# Altium footprint library Supernova Transistors.PcbLib: 21 footprints (part 1 of 2)
Each footprint in its own frame and in the unit in brackets; x right, y up, seen from the top. Pads: shape width x height; smd on the part's side, far side on the other; paste and mask are expansions set on the pad; w line width, h text height; cw(c..) or ccw(c..) is an arc to the next point about the centre after c.
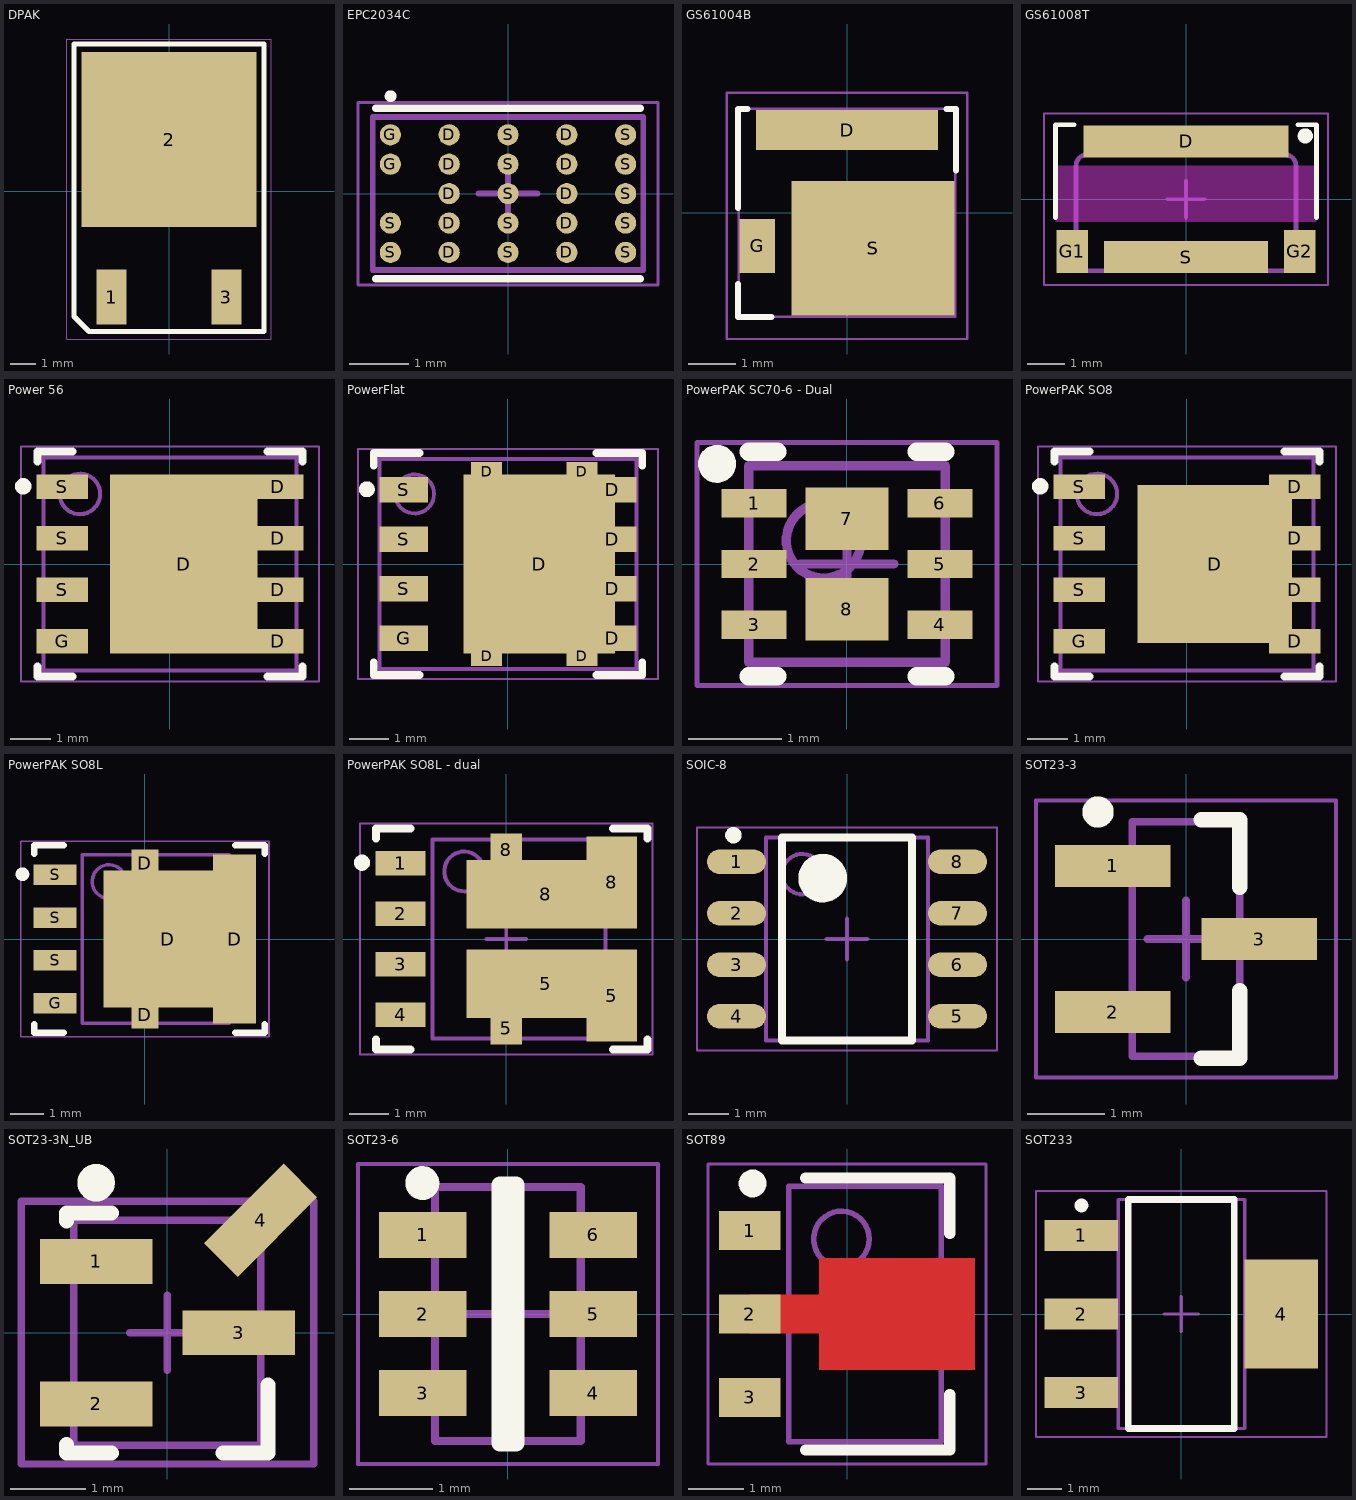
[diagram p0: the footprints below, top view; thin cyan lines are the x and y axes]

## DPAK [mm] "D2-PAK/TO-263-AB; 3 Leads (1 Cropped); Body 15.5 (inc. leads) x 10.5 mm (LxW max)"
height 4.69
pads (3):
  rect 1.2x2.2 smd: 1(-2.29,-4.23) 3(2.29,-4.23)
  rect 7x7 smd paste-5: 2(0,2.07)
Top Overlay:
  lines w0.2: -3.8,-5 -3.2,-5.6 3.8,-5.6 3.8,5.9 -3.8,5.9 -3.8,-5
Top Paste:
  region: -3.3,2.275 -0.3,2.275 -0.3,5.2 -3.3,5.2
  region: 0.35,2.275 3.3,2.275 3.3,5.2 0.35,5.2
  region: -3.3,-1.2 -0.3,-1.2 -0.3,1.775 -3.3,1.775
  region: 0.3,-1.2 3.3,-1.2 3.3,1.775 0.3,1.775
Top Courtyard (Mech15):
  lines w0.05: -4.1,-5.9 -4.1,6.1 4.1,6.1 4.1,-5.9 -4.1,-5.9
  lines w0.1: -0.5,0 0.5,0 ; 0,-0.5 0,0.5
3D body "User Library-DPAK-1.step": height 2.39, standoff -0.02, extent -3.27,-4.811 3.27,5.128

## EPC2034C [mm] "BGA, 24-Leads, Body 4.60x2.60mmx0.51mm, Pitch 0.50mm"
height 0.51
pads (24):
  round 0.36 smd paste-0.03 mask-0.03: D(-1,-1) D(-1,-0.5) D(-1,0) D(-1,0.5) D(-1,1) D(1,-1) D(1,-0.5) D(1,0) D(1,0.5) D(1,1) G(-2,0.5) G(-2,1) S(-2,-1) S(-2,-0.5) S(0,-1) S(0,-0.5) S(0,0) S(0,0.5) S(0,1) S(2,-1) S(2,-0.5) S(2,0) S(2,0.5) S(2,1)
Top Overlay:
  circle w0.1: c-1.997,1.657 r0.05
  lines w0.127: -2.25,-1.45 -1,-1.45 1,-1.45 2.25,-1.45 ; -2.25,1.45 -1,1.45 1,1.45 2.25,1.45
Top 3D Body (Mech13):
  lines w0.1: -2.3,-1.3 2.3,-1.3 2.3,1.3 -2.3,1.3 -2.3,-1.3
Top Courtyard (Mech15):
  lines w0.05: -2.55,-1.55 2.55,-1.55 2.55,1.55 -2.55,1.55 -2.55,-1.55
  lines w0.1: -0.5,0 0.5,0 ; 0,-0.5 0,0.5
3D body: height 0.51, standoff 0.25, extent -2.3,-1.3 2.3,1.3

## GS61004B [mm]
pads (3):
  rect 3.85x0.85 smd paste-2: D(0,1.75)
  rect 0.75x1.15 smd paste-0.075: G(-1.9,-0.7)
  rect 3.45x2.85 smd paste-3: S(0.55,-0.75)
Top Overlay:
  lines w0.127: -2.3,-1.5 -2.3,-2.2 -1.6,-2.2 ; -2.3,0.1 -2.3,2.2 -2.1,2.2 ; 2.1,2.2 2.3,2.2 2.3,0.9
Top Paste:
  region: 2.175,-0.175 2.175,0.575 1.175,0.575 1.175,-0.175
  region: -1.9,1.4 -1.1,1.4 -1.1,2.1 -1.9,2.1
  region: -0.9,1.4 -0.1,1.4 -0.1,2.1 -0.9,2.1
  region: 0.1,1.4 0.9,1.4 0.9,2.1 0.1,2.1
  region: 1.1,1.4 1.9,1.4 1.9,2.1 1.1,2.1
  region: 1.05,-0.175 1.05,0.575 0.05,0.575 0.05,-0.175
  region: -0.075,-0.175 -0.075,0.575 -1.075,0.575 -1.075,-0.175
  region: -1.075,-1.325 -1.075,-2.075 -0.075,-2.075 -0.075,-1.325
  region: 0.05,-1.325 0.05,-2.075 1.05,-2.075 1.05,-1.325
  region: 1.175,-1.325 1.175,-2.075 2.175,-2.075 2.175,-1.325
  region: -1.075,-0.375 -1.075,-1.125 -0.075,-1.125 -0.075,-0.375
  region: 0.05,-0.375 0.05,-1.125 1.05,-1.125 1.05,-0.375
  region: 1.175,-0.375 1.175,-1.125 2.175,-1.125 2.175,-0.375
Top 3D Body (Mech13):
  lines w0.05: -2.286,-2.2 2.286,-2.2 2.286,2.2 -2.286,2.2 -2.286,-2.2
Top Courtyard (Mech15):
  lines w0.05: -2.54,-2.667 -2.54,2.54 2.54,2.54 2.54,-2.667 -2.54,-2.667
  lines w0.1: -0.5,0 0.5,0 ; 0,-0.5 0,0.5
3D body: height 0.5, standoff 0, extent -2.286,-2.222 2.286,2.223

## GS61008T [mm] "GAN TRANS EMODE 100V 90A TOP SIDE COOLED"
height 0.5
pads (4):
  rect 5.5x0.85 smd paste-2: D(0,1.55)
  rect 0.85x1.15 smd paste-0.075: G1(-3.05,-1.4) G2(3.05,-1.4)
  rect 4.4x0.85 smd paste-2: S(0,-1.55)
Top Layer keep-out:
  region: -3.5,0.9 3.5,0.9 3.5,-0.6 -3.5,-0.6
Top Overlay:
  circle w0.203: c3.2,1.7 r0.102
  lines w0.127: -3.5,-0.5 -3.5,2 -3,2 ; 3,2 3.5,2 3.5,-0.5
Top Paste:
  region: 2.075,-1.9 1.175,-1.9 1.175,-1.2 2.075,-1.2
  region: 1.025,-1.9 0.125,-1.9 0.125,-1.2 1.025,-1.2
  region: -0.125,-1.9 -1.025,-1.9 -1.025,-1.2 -0.125,-1.2
  region: -2.075,-1.9 -1.175,-1.9 -1.175,-1.2 -2.075,-1.2
  region: -1.425,1.2 -2.575,1.2 -2.575,1.9 -1.425,1.9
  region: -0.1,1.2 -1.25,1.2 -1.25,1.9 -0.1,1.9
  region: 1.225,1.2 0.075,1.2 0.075,1.9 1.225,1.9
  region: 2.55,1.2 1.4,1.2 1.4,1.9 2.55,1.9
Mechanical 5:
  lines w0.127: -2.95,-1.62 ccw(c-2.65,-1.62) -2.65,-1.92 ; -2.95,-1.6 -2.95,0.6 -2.95,0.9 cw(c-2.65,0.9) -2.65,1.2 -2,1.2 2.1,1.2 2.65,1.2 cw(c2.65,0.9) 2.95,0.9 2.95,0.6 2.95,-1.6 ; -2.63,-1.92 -2,-1.92 2.1,-1.92 2.63,-1.92 ; 2.65,-1.92 ccw(c2.65,-1.62) 2.95,-1.62
Top Courtyard (Mech15):
  lines w0.05: -3.81,-2.3 3.81,-2.3 3.81,2.3 -3.81,2.3 -3.81,-2.3
  lines w0.1: -0.5,0 0.5,0 ; 0,-0.5 0,0.5
3D body: height 0.54, standoff 0.5, extent -2.95,-1.92 2.95,1.2
3D body: height 0.5, standoff 0, extent -3.5,-2 3.5,2

## Power 56 [mm] "SON, 8-Leads, Body 5.15x6.15mm, Pitch 1.27mm, Thermal Pad 3.74x3.66mm, IPC Medium Density"
height 1.12
pads (9):
  rect 3.65x4.42 smd paste-2: D(0.34,0)
  rect 1.27x0.61 smd paste-0.05: D(2.66,-1.905) D(2.66,-0.635) D(2.66,0.635) D(2.66,1.905) G(-2.66,-1.905) S(-2.66,-0.635) S(-2.66,0.635) S(-2.66,1.905)
Top Overlay:
  circle w0.203: c-3.628,1.919 r0.102
  lines w0.2: -3.275,-2.53 -3.275,-2.78 -2.41,-2.78 ; -3.275,2.53 -3.275,2.78 -2.41,2.78 ; 2.41,-2.78 3.275,-2.78 3.275,-2.53 ; 2.41,2.78 3.275,2.78 3.275,2.53
Top Paste:
  region: 0.398,-0.1 0.398,-1.981 1.829,-1.981 1.829,-0.1
  region: 0.148,-0.1 -1.321,-0.1 -1.321,-1.981 0.148,-1.981
  region: 0.148,0.1 0.148,2.007 -1.321,2.007 -1.321,0.1
  rectangle: 0.398,0.1 1.829,2.007
Top 3D Body (Mech13):
  circle w0.1: c-2.225,1.73 r0.5
  lines w0.1: -3.125,-2.63 3.125,-2.63 3.125,2.63 -3.125,2.63 -3.125,-2.63
Top Courtyard (Mech15):
  lines w0.05: -3.68,-2.9 3.68,-2.9 3.68,2.9 -3.68,2.9 -3.68,-2.9
  lines w0.1: -0.5,0 0.5,0 ; 0,-0.5 0,0.5
3D body: height 1.12, standoff 0, extent -3.125,-2.63 3.125,2.63

## PowerFlat [mm] "SON, 8-Leads, Body 5.20x6.40mm, Pitch 1.27mm, Thermal Pad 4.30x3.60mm, IPC Medium Density"
height 1
pads (13):
  rect 0.8x0.5 smd paste-4: D(-0.55,-2.375) D(-0.55,2.375) D(1.9,-2.375) D(1.9,2.375)
  rect 3.9x4.6 smd paste-2: D(0.8,0)
  rect 1.25x0.65 smd paste-0.05: D(2.675,-1.905) D(2.675,-0.635) D(2.675,0.635) D(2.675,1.905) G(-2.675,-1.905) S(-2.675,-0.635) S(-2.675,0.635) S(-2.675,1.905)
Top Overlay:
  circle w0.203: c-3.628,1.919 r0.102
  lines w0.2: -3.45,-2.53 -3.45,-2.85 -2.275,-2.85 ; -3.45,2.53 -3.45,2.85 -2.275,2.85 ; 2.275,-2.85 3.45,-2.85 3.45,-2.53 ; 2.275,2.85 3.45,2.85 3.45,2.53
Top Paste:
  region: 0.5,-0.1 0.5,-1.9 1.8,-1.9 1.8,-0.1
  region: 0.3,-0.1 -1,-0.1 -1,-1.9 0.3,-1.9
  region: 0.3,0.1 0.3,1.9 -1,1.9 -1,0.1
  rectangle: 0.5,0.1 1.8,1.9
Top 3D Body (Mech13):
  circle w0.1: c-2.4,1.8 r0.5
  lines w0.1: -3.3,-2.7 -3.3,2.7 3.3,2.7 3.3,-2.7 -3.3,-2.7
Top Courtyard (Mech15):
  lines w0.05: -3.855,-2.95 -3.855,2.95 3.855,2.95 3.855,-2.95 -3.855,-2.95
  lines w0.1: -0.5,0 0.5,0 ; 0,-0.5 0,0.5
3D body: height 1, standoff 0.02, extent -3.3,-2.7 3.3,2.7

## PowerPAK SC70-6 - Dual [mm] "SON, 6-Leads, Body 2.00x2.00mm, Pitch 0.65mm, Thermal Pad 0.67x0.89mm, IPC Medium Density"
height 0.55
pads (8):
  rect 0.7x0.3 smd mask+0.025: 1(-0.995,0.65) 2(-0.995,0) 3(-0.995,-0.65) 4(0.995,-0.65) 5(0.995,0) 6(0.995,0.65)
  rect 0.89x0.67 smd paste-0.06 mask+0.025: 7(0,0.485) 8(0,-0.485)
Top Overlay:
  circle w0.203: c-1.391,1.072 r0.102
  lines w0.2: -1.05,-1.2 -0.745,-1.2 ; -1.05,1.2 -0.745,1.2 ; 0.745,-1.2 1.05,-1.2 ; 0.745,1.2 1.05,1.2
Top 3D Body (Mech13):
  circle w0.1: c-0.25,0.25 r0.4
  lines w0.1: -1.05,-1.05 -1.05,1.05 1.05,1.05 1.05,-1.05 -1.05,-1.05
Top Courtyard (Mech15):
  lines w0.05: -1.605,-1.3 -1.605,1.3 1.605,1.3 1.605,-1.3 -1.605,-1.3
  lines w0.1: -0.5,0 0.5,0 ; 0,-0.5 0,0.5
3D body: height 0.55, standoff 0, extent -1.05,-1.05 1.05,1.05

## PowerPAK SO8 [mm] "SON, 8-Leads, Body 5.15x6.15mm, Pitch 1.27mm, Thermal Pad 3.74x3.66mm, IPC Medium Density"
height 1.12
pads (9):
  rect 3.81x3.91 smd paste-2: D(0.686,0)
  rect 1.27x0.61 smd paste-0.05: D(2.66,-1.905) D(2.66,-0.635) D(2.66,0.635) D(2.66,1.905) G(-2.66,-1.905) S(-2.66,-0.635) S(-2.66,0.635) S(-2.66,1.905)
Top Overlay:
  circle w0.203: c-3.628,1.919 r0.102
  lines w0.2: -3.275,-2.53 -3.275,-2.78 -2.41,-2.78 ; -3.275,2.53 -3.275,2.78 -2.41,2.78 ; 2.41,-2.78 3.275,-2.78 3.275,-2.53 ; 2.41,2.78 3.275,2.78 3.275,2.53
Top Paste:
  region: 0.55,-0.1 0.55,-1.6 1.85,-1.6 1.85,-0.1
  region: 0.3,-0.1 -1,-0.1 -1,-1.6 0.3,-1.6
  region: 0.3,0.1 0.3,1.6 -1,1.6 -1,0.1
  rectangle: 0.55,0.1 1.85,1.6
Top 3D Body (Mech13):
  circle w0.1: c-2.225,1.73 r0.5
  lines w0.1: -3.125,-2.63 3.125,-2.63 3.125,2.63 -3.125,2.63 -3.125,-2.63
Top Courtyard (Mech15):
  lines w0.05: -3.68,-2.9 3.68,-2.9 3.68,2.9 -3.68,2.9 -3.68,-2.9
  lines w0.1: -0.5,0 0.5,0 ; 0,-0.5 0,0.5
3D body: height 1.12, standoff 0, extent -3.125,-2.63 3.125,2.63

## PowerPAK SO8L [mm] "SON, 8-Leads, Body 5.15x6.15mm, Pitch 1.27mm, Thermal Pad 3.74x3.66mm, IPC Medium Density"
height 1.12
pads (8):
  rect 0.8x0.8 smd paste-4: D(0,-2.25) D(0,2.25)
  rect 3.81x4.061 smd paste-2: D(0.686,0)
  rect 1.27x5 smd paste-0.05: D(2.66,0)
  rect 1.27x0.61 smd paste-0.05: G(-2.66,-1.905) S(-2.66,-0.635) S(-2.66,0.635) S(-2.66,1.905)
Top Overlay:
  circle w0.203: c-3.628,1.919 r0.102
  lines w0.2: -3.275,-2.53 -3.275,-2.78 -2.41,-2.78 ; -3.275,2.53 -3.275,2.78 -2.41,2.78 ; 2.685,-2.78 3.55,-2.78 3.55,-2.53 ; 2.685,2.78 3.55,2.78 3.55,2.53
Top Paste:
  region: 0.5,-0.1 0.5,-1.7 1.8,-1.7 1.8,-0.1
  region: 0.3,-0.1 -1,-0.1 -1,-1.7 0.3,-1.7
  region: 0.3,0.1 0.3,1.7 -1,1.7 -1,0.1
  rectangle: 0.5,0.1 1.8,1.7
Top 3D Body (Mech13):
  circle w0.1: c-1.06,1.7 r0.5
  lines w0.1: -1.86,-2.5 -1.86,2.5 2.5,2.5 2.5,-2.5 -1.86,-2.5
Top Courtyard (Mech15):
  lines w0.05: -3.68,-2.9 3.68,-2.9 3.68,2.9 -3.68,2.9 -3.68,-2.9
  lines w0.1: -0.5,0 0.5,0 ; 0,-0.5 0,0.5
3D body: height 1.07, standoff 0, extent -1.86,-2.5 2.5,2.5
3D body: height 0.4, standoff 0, extent -3.054,1.727 -0.227,2.083
3D body: height 0.4, standoff 0, extent -3.054,0.457 -0.227,0.813
3D body: height 0.4, standoff 0, extent -3.054,-0.813 -0.227,-0.457
3D body: height 0.4, standoff 0, extent -3.054,-2.083 -0.227,-1.727
3D body: height 0.4, standoff 0, extent 2.5,-2.5 3.054,2.5

## PowerPAK SO8L - dual [mm] "SON, 8-Leads, Body 5.15x6.15mm, Pitch 1.27mm, Thermal Pad 3.74x3.66mm, IPC Medium Density"
height 1.12
pads (10):
  rect 1.27x0.61 smd paste-0.05: 1(-2.66,1.905) 2(-2.66,0.635) 3(-2.66,-0.635) 4(-2.66,-1.905)
  rect 0.8x0.8 smd paste-4: 5(0,-2.25) 8(0,2.25)
  rect 3.99x1.73 smd paste-2: 5(1,-1.125) 8(1,1.125)
  rect 1.27x2.315 smd paste-0.05: 5(2.66,-1.425) 8(2.66,1.425)
Top Overlay:
  circle w0.203: c-3.628,1.919 r0.102
  lines w0.2: -3.275,-2.53 -3.275,-2.78 -2.41,-2.78 ; -3.275,2.53 -3.275,2.78 -2.41,2.78 ; 2.685,-2.78 3.55,-2.78 3.55,-2.53 ; 2.685,2.78 3.55,2.78 3.55,2.53
Top Paste:
  region: 1.6,1.8 -0.625,1.8 -0.625,0.5 1.6,0.5
  region: 1.6,-0.5 -0.625,-0.5 -0.625,-1.8 1.6,-1.8
Top 3D Body (Mech13):
  circle w0.1: c-1.06,1.7 r0.5
  lines w0.1: -1.86,-2.5 2.5,-2.5 2.5,2.5 -1.86,2.5 -1.86,-2.5
Top Courtyard (Mech15):
  lines w0.05: -3.68,-2.9 -3.68,2.9 3.68,2.9 3.68,-2.9 -3.68,-2.9
  lines w0.1: -0.5,0 0.5,0 ; 0,-0.5 0,0.5
3D body: height 0.4, standoff 0, extent 2.5,-2.5 3.054,-0.35
3D body: height 0.4, standoff 0, extent 2.5,0.35 3.054,2.5
3D body: height 0.4, standoff 0, extent -3.054,-2.083 -0.227,-1.727
3D body: height 0.4, standoff 0, extent -3.054,-0.813 -0.227,-0.457
3D body: height 0.4, standoff 0, extent -3.054,0.457 -0.227,0.813
3D body: height 0.4, standoff 0, extent -3.054,1.727 -0.227,2.083
3D body: height 1.07, standoff 0, extent -1.86,-2.5 2.5,2.5

## SOIC-8 [mm] "SOIC, 8-Leads, Body 4.90x3.90mm, Pitch 1.27mm, IPC Medium Density"
height 1.75
pads (8):
  oval 1.45x0.6 smd: 1(-2.725,1.905) 2(-2.725,0.635) 3(-2.725,-0.635) 4(-2.725,-1.905) 5(2.725,-1.905) 6(2.725,-0.635) 7(2.725,0.635) 8(2.725,1.905)
Top Overlay:
  circle w0.203: c-2.801,2.56 r0.102
  circle w0.6: c-0.6,1.5 r0.3
  lines w0.2: -1.6,-2.5 1.6,-2.5 1.6,2.5 -1.6,2.5 -1.6,-2.5
Top 3D Body (Mech13):
  circle w0.1: c-1.1,1.6 r0.5
  lines w0.1: -2,-2.5 2,-2.5 2,2.5 -2,2.5 -2,-2.5
Top Courtyard (Mech15):
  lines w0.05: -3.7,-2.75 3.7,-2.75 3.7,2.75 -3.7,2.75 -3.7,-2.75
  lines w0.1: -0.5,0 0.5,0 ; 0,-0.5 0,0.5
3D body: height 1.75, standoff 0.1, extent -2,-2.5 2,2.5
3D body: height 0.2, standoff 0, extent -3,1.725 3,2.1
3D body: height 0.2, standoff 0, extent -3,0.45 3,0.825
3D body: height 0.2, standoff 0, extent -3,-0.825 3,-0.45
3D body: height 0.2, standoff 0, extent -3,-2.1 3,-1.725

## SOT23-3 [mm] "SOT23, 3-Leads, Body 2.90x2.45mm, Pitch 0.95mm, IPC Medium Density"
height 1.45
pads (3):
  rect 1.5x0.55 smd: 1(-0.95,0.95) 2(-0.95,-0.95) 3(0.95,0)
Top Overlay:
  circle w0.203: c-1.143,1.651 r0.102
  lines w0.2: 0.2,-1.55 0.7,-1.55 0.7,-0.675 ; 0.2,1.55 0.7,1.55 0.7,0.675
Top 3D Body (Mech13):
  lines w0.1: -0.7,-1.525 0.7,-1.525 0.7,1.525 -0.7,1.525 -0.7,-1.525
Top Courtyard (Mech15):
  lines w0.05: -1.95,-1.8 -1.95,1.8 1.95,1.8 1.95,-1.8 -1.95,-1.8
  lines w0.1: -0.5,0 0.5,0 ; 0,-0.5 0,0.5
3D body "CircuitWorks-SOT-23.step": height 1.1, standoff 0, extent -1.25,-1.5 1.25,1.5

## SOT23-3N_UB [mm]
pads (4):
  rect 1.5x0.6 smd: 1(-0.95,0.95) 2(-0.95,-0.95) 3(0.95,0)
  rect 0.635x1.5 smd rot 135: 4(1.245,1.5)
Top Overlay:
  circle w0.25: c-0.95,2 r0.125
  lines w0.2: -1.345,-1.49 -1.345,-1.6 -0.745,-1.6 ; -1.345,1.49 -1.345,1.6 -0.745,1.6 ; 0.745,-1.605 1.345,-1.605 1.345,-0.7
Top 3D Body (Mech13):
  lines w0.1: -1.245,-1.5 1.245,-1.5 1.245,1.5 -1.245,1.5 -1.245,-1.5
Top Courtyard (Mech15):
  lines w0.1: -0.5,0 0.5,0 ; 0,-0.5 0,0.5 ; -1.95,-1.75 1.95,-1.75 1.95,1.75 -1.95,1.75 -1.95,-1.75
3D body "Transistor, Microsemi 2N3700UB.SLDPRT": height 1.44, standoff 0.02, extent -1.371,-1.626 1.372,1.626

## SOT23-6 [mm] "SOT23, 6-Leads, Body 2.90x2.45mm, Pitch 0.95mm, IPC Medium Density"
height 1.45
pads (6):
  rect 1.05x0.55 smd: 1(-1.025,0.95) 2(-1.025,0) 3(-1.025,-0.95) 4(1.025,-0.95) 5(1.025,0) 6(1.025,0.95)
Top Overlay:
  circle w0.203: c-1.028,1.571 r0.102
  lines w0.2: -0.1,-1.55 0.1,-1.55 0.1,1.55 -0.1,1.55 -0.1,-1.55
Top 3D Body (Mech13):
  lines w0.1: -0.875,-1.525 -0.875,1.525 0.875,1.525 0.875,-1.525 -0.875,-1.525
Top Courtyard (Mech15):
  lines w0.05: -1.8,-1.8 -1.8,1.8 1.8,1.8 1.8,-1.8 -1.8,-1.8
  lines w0.1: -0.5,0 0.5,0 ; 0,-0.5 0,0.5
3D body: height 0.2, standoff 0, extent -1.3,-1.15 1.3,-0.75
3D body: height 0.2, standoff 0, extent -1.3,-0.2 1.3,0.2
3D body: height 0.2, standoff 0, extent -1.3,0.75 1.3,1.15
3D body: height 1.45, standoff 0, extent -0.875,-1.525 0.875,1.525

## SOT89 [mm] "SOT89, 3-Leads, Body 4.50x2.50mm, Pitch 1.50mm, Lead Span 3.5mm, IPC Medium Density"
height 1.6
pads (3):
  rect 1.1x0.7 smd paste-0.05: 1(-1.75,1.5) 2(-1.75,0) 3(-1.75,-1.5)
Top Layer:
  region: -1.753,0.35 -0.5,0.35 -0.5,1 2.3,1 2.3,-1 -0.5,-1 -0.5,-0.35 -1.753,-0.35
Top Overlay:
  circle w0.25: c-1.7,2.35 r0.125
  lines w0.2: -0.75,-2.45 1.85,-2.45 1.85,-1.45 ; -0.75,2.45 1.85,2.45 1.85,1.45
Top Paste:
  rectangle: 0,-0.6 1.2,0.6
  rectangle: 1.4,-0.95 2.25,0.95
Top 3D Body (Mech13):
  circle w0.1: c-0.1,1.35 r0.5
  lines w0.1: -1.05,-2.3 1.7,-2.3 1.7,2.3 -1.05,2.3 -1.05,-2.3
Top Courtyard (Mech15):
  lines w0.05: -2.5,-2.7 2.5,-2.7 2.5,2.7 -2.5,2.7 -2.5,-2.7
  lines w0.1: -0.25,0 0.75,0 ; 0.25,-0.5 0.25,0.5
3D body "SOT-89.step": height 1.35, standoff 0, extent -2.125,-2.3 2.125,2.3

## SOT233 [mm] "SOT223, 4-Leads, Body 6.45x7.00mm (avg), Pitch 2.30mm, IPC Medium Density"
height 1.8
pads (4):
  rect 2.15x0.9 smd: 1(-2.925,2.3) 2(-2.925,0) 3(-2.925,-2.3)
  rect 2.15x3.2 smd paste-0.2: 4(2.925,0)
Top Overlay:
  circle w0.203: c-2.921,3.175 r0.102
  lines w0.2: -1.55,-3.35 1.55,-3.35 1.55,3.35 -1.55,3.35 -1.55,-3.35
Top 3D Body (Mech13):
  lines w0.1: -1.85,-3.35 1.85,-3.35 1.85,3.35 -1.85,3.35 -1.85,-3.35
Top Courtyard (Mech15):
  lines w0.05: -4.25,-3.6 4.25,-3.6 4.25,3.6 -4.25,3.6 -4.25,-3.6
  lines w0.1: -0.5,0 0.5,0 ; 0,-0.5 0,0.5
3D body: height 1.8, standoff 0.02, extent -1.85,-3.35 1.85,3.35
3D body: height 0.3, standoff 0, extent -3.5,2 -0.9,2.6
3D body: height 0.3, standoff 0, extent -3.5,-0.3 -0.9,0.3
3D body: height 0.3, standoff 0, extent -3.5,-2.6 -0.9,-2
3D body: height 0.3, standoff 0, extent 0.9,-1.375 3.5,1.45